# Altium integrated library Silicon Labs Small Form Factor MCUs.IntLib: 100 symbols (part 1 of 5)
Pins are listed as number, name and electrical type; pins without a type are passive.

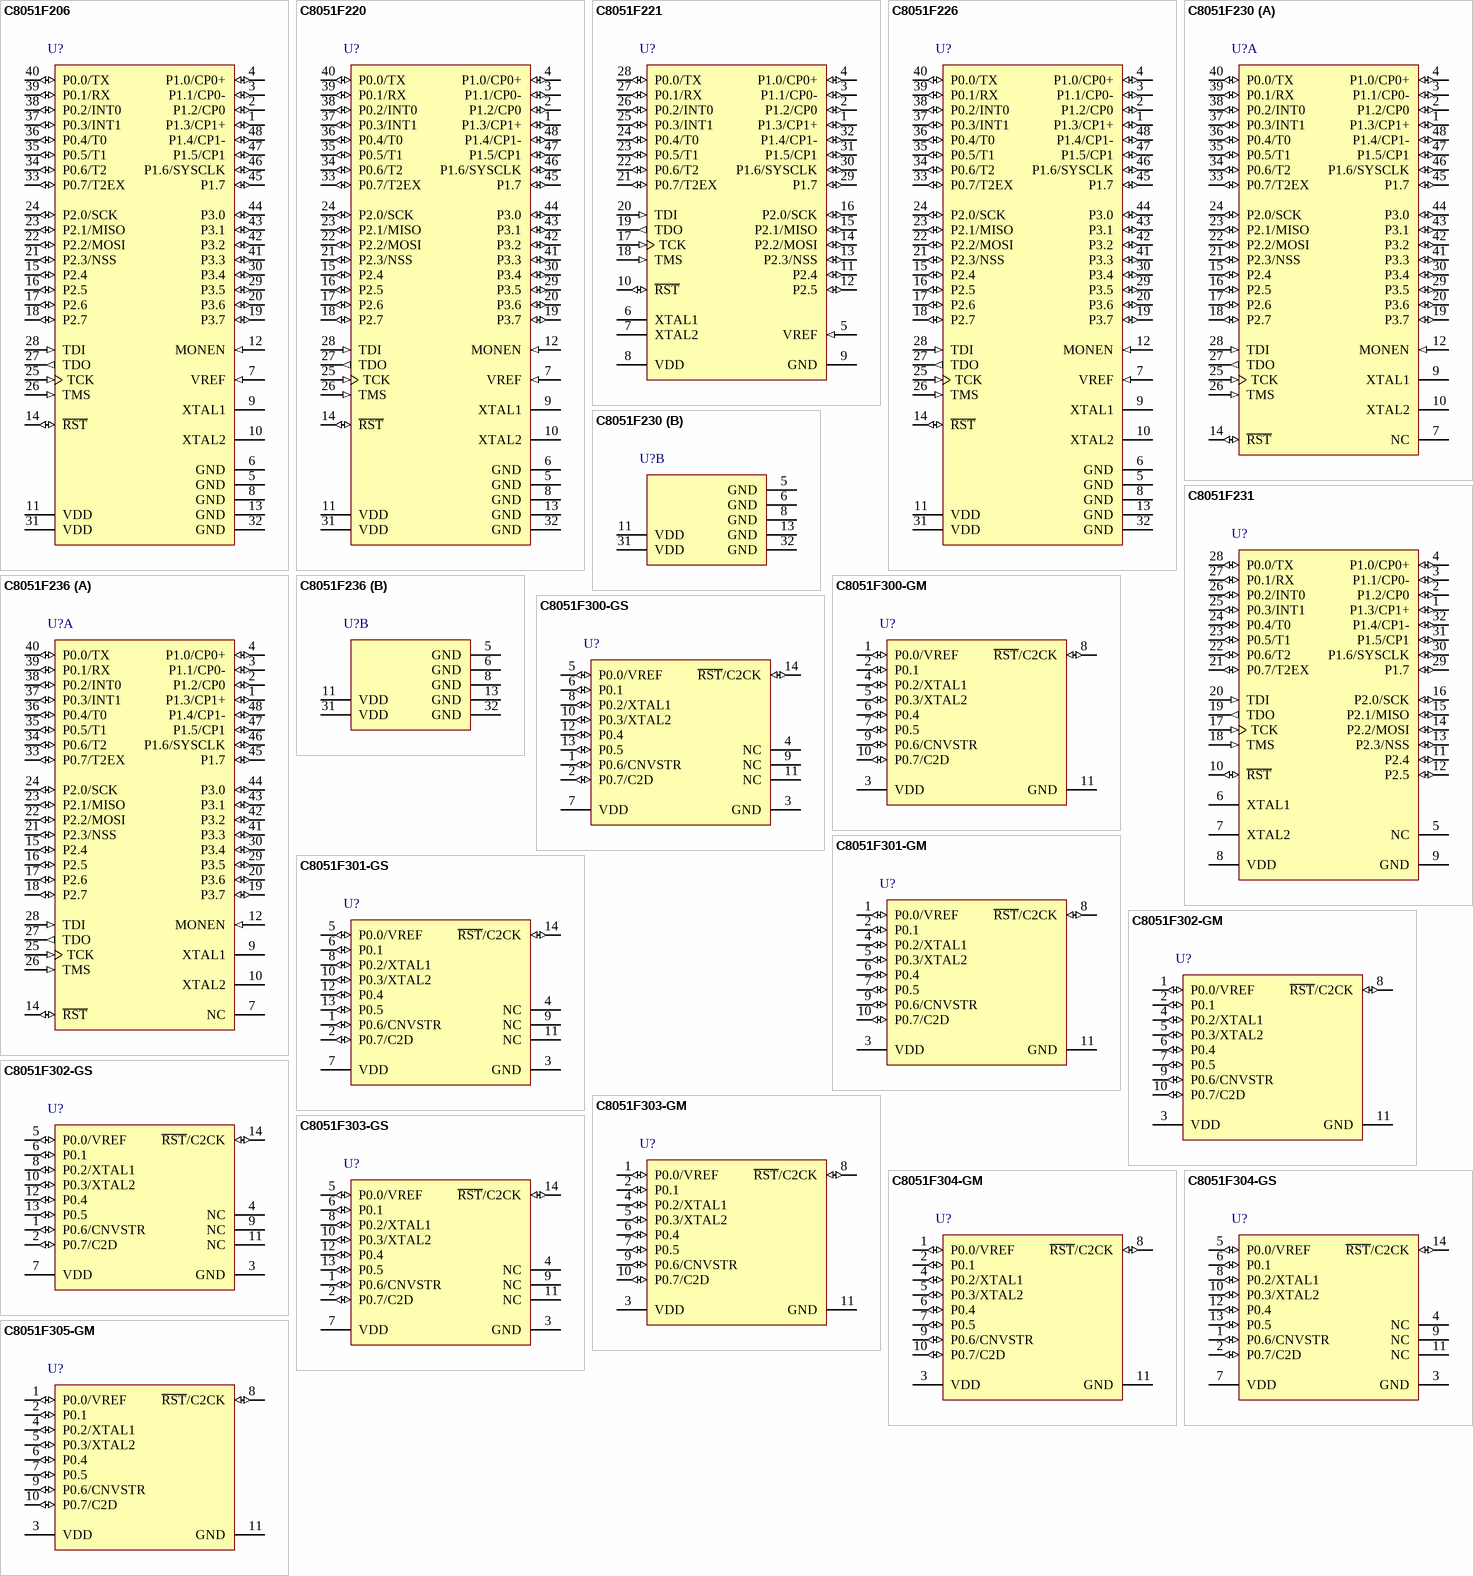
[diagram p0: symbols C8051F206 to C8051F305-GM]

## C8051F206
designator U?
Mixed Signal ISP Flash MCU Family, 25 MHz, 1.25 kB RAM, 8 kB Flash, -40 to 85 degC, 48-pin QFN; Manufacturer: Silicon Labs; PartNumber: C8051F206; AEC-Q100: FALSE; Comparators: 2; Debug Interface: C2; Dig I/O Pins: 32; Flash: 8 kB; Internal Osc. Accuracy: +/-20%; MCU Core: 8051; MHz: 25; RAM: 1.25 kB; Timers (16-bit): 3; Sub-Family: Small Form Factor MCUs; DatasheetVersion: Rev. 1.6; PackageReference: TQFP-48; PackageDescription: 48-pin TQFP, Body 7 x 7 mm, Pitch 0.5 mm; Supplier 1: Digi-Key; Supplier Part Number 1: C8051F206-ND; Supplier 2: Mouser; Supplier Part Number 2: 634-C8051F206; Temp Sensor: FALSE; Mounting Technology: Surface Mount; Code_JEDEC: MS-026; Code_IPC: J-STD-020; ComponentLink1Description: Manufacturer URL; ComponentLink1URL: http://www.silabs.com/; ComponentLink2Description: Datasheet; ComponentLink2URL: http://www.silabs.com/Support Documents/TechnicalDocs/C8051F2xx.pdf; ComponentLink3Description: Package Specification; ComponentLink3URL: http://www.silabs.com/Support%20Documents/TechnicalDocs/CP2200.pdf
footprint SLAB-TQFP-48_N (QFP, 48-Leads, Body 7x7mm, Pitch 0.5mm, IPC Medium Density)
footprint SLAB-TQFP-48_L (QFP, 48-Leads, Body 7x7mm, Pitch 0.5mm, IPC High Density)
footprint SLAB-TQFP-48_M (QFP, 48-Leads, Body 7x7mm, Pitch 0.5mm, IPC Low Density)
pins: 1 P1.3/CP1+ (io), 2 P1.2/CP0 (io), 3 P1.1/CP0- (io), 4 P1.0/CP0+ (io), 5 GND (power) "Ground. (Note: Pins 5,6, and 8 on the 48-pin package are not connected (NC), but it is recommended that they be connected to ground.)", 6 GND (power) "Ground. (Note: Pins 5,6, and 8 on the 48-pin package are not connected (NC), but it is recommended that they be connected to ground.)", 7 VREF (in) "Voltage Reference. When configured as an input, this pin is the voltage reference for the ADC. Otherwise, VDD will be the reference. NOTE: this pin is Not Connected (NC) on ‘F230/1/6.", 8 GND (power) "Ground. (Note: Pins 5,6, and 8 on the 48-pin package are not connected (NC), but it is recommended that they be connected to ground.)", 9 XTAL1 "Crystal Input. This pin is the return for the internal oscillator circuit for a crystal or ceramic resonator. For a precision internal clock, connect a crystal or ceramic resonator from XTAL1 to XTAL2. If overdriven by an (See Datasheet)", 10 XTAL2 "Crystal Output. This pin is the excitation driver for a crystal or ceramic resonator.", 11 VDD (power) "Digital Voltage Supply.", 12 MONEN (in) "Monitor Enable (on 48 pin package ONLY). Enables reset voltage monitor function when pulled high (logic “1”).", 13 GND (power) "Ground. (Note: Pins 5,6, and 8 on the 48-pin package are not connected (NC), but it is recommended that they be connected to ground.)", 14 ~{RST} (io) "Chip Reset. Open-drain output of internal Voltage Supply monitor. Is driven low when VDD is < 2.7V and MONEN=1, or when a ‘1’is written to PORSF. An external source can force a system reset by driving this pin low.", 15 P2.4 (io) "Port2 Bit4. (See the Port I/O Sub-System section for complete description).", 16 P2.5 (io) "Port2 Bit5. (See the Port I/O Sub-System section for complete description).", 17 P2.6 (io) "Port2 Bit6. (See the Port I/O Sub-System section for complete description).", 18 P2.7 (io) "Port2 Bit7. (See the Port I/O Sub-System section for complete description).", 19 P3.7 (io) "Port3 Bit7. (See the Port I/O Sub-System section for complete description).", 20 P3.6 (io) "Port3 Bit6. (See the Port I/O Sub-System section for complete description).", 21 P2.3/NSS (io), 22 P2.2/MOSI (io), 23 P2.1/MISO (io), 24 P2.0/SCK (io), 25 TCK (in) "JTAG Test Clock with internal pull-up.", 26 TMS (in) "JTAG Test-Mode Select with internal pull-up.", 27 TDO (out) "JTAG Test Data Output. Data is shifted out on TDO on the falling edge of TCK. TDO output is a tri-state driver.", 28 TDI (in) "JTAG Test Data Input with internal pull-up. TDI is latched on a rising edge of TCK.", 29 P3.5 (io) "Port3 Bit5. (See the Port I/O Sub-System section for complete description).", 30 P3.4 (io) "Port3 Bit4. (See the Port I/O Sub-System section for complete description).", 31 VDD (power) "Digital Voltage Supply.", 32 GND (power) "Ground. (Note: Pins 5,6, and 8 on the 48-pin package are not connected (NC), but it is recommended that they be connected to ground.)", 33 P0.7/T2EX (io), 34 P0.6/T2 (io), 35 P0.5/T1 (io), 36 P0.4/T0 (io), 37 P0.3/INT1 (io), 38 P0.2/INT0 (io), 39 P0.1/RX (io), 40 P0.0/TX (io), 41 P3.3 (io) "Port3 Bit3. (See the Port I/O Sub-System section for complete description).", 42 P3.2 (io) "Port3 Bit2. (See the Port I/O Sub-System section for complete description).", 43 P3.1 (io) "Port3 Bit1. (See the Port I/O Sub-System section for complete description).", 44 P3.0 (io) "Port3 Bit0. (See the Port I/O Sub-System section for complete description).", 45 P1.7 (io) "Port1 Bit7. (See the Port I/O Sub-System section for complete description).", 46 P1.6/SYSCLK (io), 47 P1.5/CP1 (io), 48 P1.4/CP1- (io)

## C8051F220
designator U?
Mixed Signal ISP Flash MCU Family, 25 MHz, 0.25 kB RAM, 8 kB Flash, -40 to 85 degC, 48-pin QFN; Manufacturer: Silicon Labs; PartNumber: C8051F220; AEC-Q100: FALSE; Comparators: 2; Debug Interface: C2; Dig I/O Pins: 32; Flash: 8 kB; Internal Osc. Accuracy: +/-20%; MCU Core: 8051; MHz: 25; RAM: 0.25 kB; Timers (16-bit): 3; Sub-Family: Small Form Factor MCUs; DatasheetVersion: Rev. 1.6; PackageReference: TQFP-48; PackageDescription: 48-pin TQFP, Body 7 x 7 mm, Pitch 0.5 mm; Supplier 1: Digi-Key; Supplier Part Number 1: C8051F220-ND; Supplier 2: Mouser; Supplier Part Number 2: 634-C8051F220; Temp Sensor: FALSE; Mounting Technology: Surface Mount; Code_JEDEC: MS-026; Code_IPC: J-STD-020; ComponentLink1Description: Manufacturer URL; ComponentLink1URL: http://www.silabs.com/; ComponentLink2Description: Datasheet; ComponentLink2URL: http://www.silabs.com/Support Documents/TechnicalDocs/C8051F2xx.pdf; ComponentLink3Description: Package Specification; ComponentLink3URL: http://www.silabs.com/Support%20Documents/TechnicalDocs/CP2200.pdf
footprint SLAB-TQFP-48_N (QFP, 48-Leads, Body 7x7mm, Pitch 0.5mm, IPC Medium Density)
footprint SLAB-TQFP-48_L (QFP, 48-Leads, Body 7x7mm, Pitch 0.5mm, IPC High Density)
footprint SLAB-TQFP-48_M (QFP, 48-Leads, Body 7x7mm, Pitch 0.5mm, IPC Low Density)
pins: 1 P1.3/CP1+ (io), 2 P1.2/CP0 (io), 3 P1.1/CP0- (io), 4 P1.0/CP0+ (io), 5 GND (power) "Ground. (Note: Pins 5,6, and 8 on the 48-pin package are not connected (NC), but it is recommended that they be connected to ground.)", 6 GND (power) "Ground. (Note: Pins 5,6, and 8 on the 48-pin package are not connected (NC), but it is recommended that they be connected to ground.)", 7 VREF (in) "Voltage Reference. When configured as an input, this pin is the voltage reference for the ADC. Otherwise, VDD will be the reference. NOTE: this pin is Not Connected (NC) on ‘F230/1/6.", 8 GND (power) "Ground. (Note: Pins 5,6, and 8 on the 48-pin package are not connected (NC), but it is recommended that they be connected to ground.)", 9 XTAL1 "Crystal Input. This pin is the return for the internal oscillator circuit for a crystal or ceramic resonator. For a precision internal clock, connect a crystal or ceramic resonator from XTAL1 to XTAL2. If overdriven by an (See Datasheet)", 10 XTAL2 "Crystal Output. This pin is the excitation driver for a crystal or ceramic resonator.", 11 VDD (power) "Digital Voltage Supply.", 12 MONEN (in) "Monitor Enable (on 48 pin package ONLY). Enables reset voltage monitor function when pulled high (logic “1”).", 13 GND (power) "Ground. (Note: Pins 5,6, and 8 on the 48-pin package are not connected (NC), but it is recommended that they be connected to ground.)", 14 ~{RST} (io) "Chip Reset. Open-drain output of internal Voltage Supply monitor. Is driven low when VDD is < 2.7V and MONEN=1, or when a ‘1’is written to PORSF. An external source can force a system reset by driving this pin low.", 15 P2.4 (io) "Port2 Bit4. (See the Port I/O Sub-System section for complete description).", 16 P2.5 (io) "Port2 Bit5. (See the Port I/O Sub-System section for complete description).", 17 P2.6 (io) "Port2 Bit6. (See the Port I/O Sub-System section for complete description).", 18 P2.7 (io) "Port2 Bit7. (See the Port I/O Sub-System section for complete description).", 19 P3.7 (io) "Port3 Bit7. (See the Port I/O Sub-System section for complete description).", 20 P3.6 (io) "Port3 Bit6. (See the Port I/O Sub-System section for complete description).", 21 P2.3/NSS (io), 22 P2.2/MOSI (io), 23 P2.1/MISO (io), 24 P2.0/SCK (io), 25 TCK (in) "JTAG Test Clock with internal pull-up.", 26 TMS (in) "JTAG Test-Mode Select with internal pull-up.", 27 TDO (out) "JTAG Test Data Output. Data is shifted out on TDO on the falling edge of TCK. TDO output is a tri-state driver.", 28 TDI (in) "JTAG Test Data Input with internal pull-up. TDI is latched on a rising edge of TCK.", 29 P3.5 (io) "Port3 Bit5. (See the Port I/O Sub-System section for complete description).", 30 P3.4 (io) "Port3 Bit4. (See the Port I/O Sub-System section for complete description).", 31 VDD (power) "Digital Voltage Supply.", 32 GND (power) "Ground. (Note: Pins 5,6, and 8 on the 48-pin package are not connected (NC), but it is recommended that they be connected to ground.)", 33 P0.7/T2EX (io), 34 P0.6/T2 (io), 35 P0.5/T1 (io), 36 P0.4/T0 (io), 37 P0.3/INT1 (io), 38 P0.2/INT0 (io), 39 P0.1/RX (io), 40 P0.0/TX (io), 41 P3.3 (io) "Port3 Bit3. (See the Port I/O Sub-System section for complete description).", 42 P3.2 (io) "Port3 Bit2. (See the Port I/O Sub-System section for complete description).", 43 P3.1 (io) "Port3 Bit1. (See the Port I/O Sub-System section for complete description).", 44 P3.0 (io) "Port3 Bit0. (See the Port I/O Sub-System section for complete description).", 45 P1.7 (io) "Port1 Bit7. (See the Port I/O Sub-System section for complete description).", 46 P1.6/SYSCLK (io), 47 P1.5/CP1 (io), 48 P1.4/CP1- (io)

## C8051F221
designator U?
Mixed Signal ISP Flash MCU Family, 25 MHz, 0.25 kB RAM, 8 kB Flash, -40 to 85 degC, 32-pin QFP; Manufacturer: Silicon Labs; PartNumber: C8051F221; AEC-Q100: FALSE; Comparators: 2; Debug Interface: C2; Dig I/O Pins: 22; Flash: 8 kB; Internal Osc. Accuracy: +/-20%; MCU Core: 8051; MHz: 25; RAM: 0.25 kB; Timers (16-bit): 3; Sub-Family: Small Form Factor MCUs; DatasheetVersion: Rev. 1.6; PackageReference: LQFP-32; PackageDescription: 32-Pin Low-Profile Quad Flat Pack, Body 7 x 7 mm, Pitch 0.8 mm; Supplier 1: Digi-Key; Supplier Part Number 1: C8051F221-ND; Supplier 2: Mouser; Supplier Part Number 2: 634-C8051F221; Temp Sensor: FALSE; Mounting Technology: Surface Mount; Code_JEDEC: MS-026; Code_IPC: J-STD-020; ComponentLink1Description: Manufacturer URL; ComponentLink1URL: http://www.silabs.com/; ComponentLink2Description: Datasheet; ComponentLink2URL: http://www.silabs.com/Support Documents/TechnicalDocs/C8051F2xx.pdf; ComponentLink3Description: Package Specification; ComponentLink3URL: http://www.silabs.com/Support%20Documents/TechnicalDocs/C8051F38x.pdf
footprint SLAB-LQFP-32_N (QFP, 32-Leads, Body 7x7mm, Pitch 0.8mm, IPC Medium Density)
footprint SLAB-LQFP-32_L (QFP, 32-Leads, Body 7x7mm, Pitch 0.8mm, IPC High Density)
footprint SLAB-LQFP-32_M (QFP, 32-Leads, Body 7x7mm, Pitch 0.8mm, IPC Low Density)
pins: 1 P1.3/CP1+ (io), 2 P1.2/CP0 (io), 3 P1.1/CP0- (io), 4 P1.0/CP0+ (io), 5 VREF (in) "Voltage Reference. When configured as an input, this pin is the  voltage reference for the ADC. Otherwise, VDD will be the reference. NOTE: this pin is Not Connected (NC) on ‘F230/1/6.", 6 XTAL1 "Crystal Input. This pin is the return for the internal oscillator circuit for a crystal or ceramic resonator. For a precision internal  clock, connect a crystal or ceramic resonator from XTAL1 to  XTAL2. If overdriven by an (See Datasheet)", 7 XTAL2 "Crystal Output. This pin is the excitation driver for a crystal or  ceramic resonator.", 8 VDD (power) "Digital Voltage Supply.", 9 GND (power) "Ground.", 10 ~{RST} (io) "Chip Reset. Open-drain output of internal Voltage Supply monitor. Is driven low when VDD is < 2.7V and MONEN=1, or when a  ‘1’is written to PORSF. An external source can force a system  reset by driving this pin low.", 11 P2.4 (io) "Port2 Bit4. (See the Port I/O Sub-System section for complete  description).", 12 P2.5 (io) "Port2 Bit5. (See the Port I/O Sub-System section for complete  description).", 13 P2.3/NSS (io), 14 P2.2/MOSI (io), 15 P2.1/MISO (io), 16 P2.0/SCK (io), 17 TCK (in) "JTAG Test Clock with internal pull-up.", 18 TMS (in) "JTAG Test-Mode Select with internal pull-up.", 19 TDO (out) "JTAG Test Data Output. Data is shifted out on TDO on the falling  edge of TCK. TDO output is a tri-state driver.", 20 TDI (in) "JTAG Test Data Input with internal pull-up. TDI is latched on a  rising edge of TCK.", 21 P0.7/T2EX (io), 22 P0.6/T2 (io), 23 P0.5/T1 (io), 24 P0.4/T0 (io), 25 P0.3/INT1 (io), 26 P0.2/INT0 (io), 27 P0.1/RX (io), 28 P0.0/TX (io), 29 P1.7 (io) "Port1 Bit7. (See the Port I/O Sub-System section for complete  description).", 30 P1.6/SYSCLK (io), 31 P1.5/CP1 (io), 32 P1.4/CP1- (io)

## C8051F226
designator U?
Mixed Signal ISP Flash MCU Family, 25 MHz, 1.25 kB RAM, 8 kB Flash, -40 to 85 degC, 48-pin QFN; Manufacturer: Silicon Labs; PartNumber: C8051F226; AEC-Q100: FALSE; Comparators: 2; Debug Interface: C2; Dig I/O Pins: 32; Flash: 8 kB; Internal Osc. Accuracy: +/-20%; MCU Core: 8051; MHz: 25; RAM: 1.25 kB; Timers (16-bit): 3; Sub-Family: Small Form Factor MCUs; DatasheetVersion: Rev. 1.6; PackageReference: TQFP-48; PackageDescription: 48-pin TQFP, Body 7 x 7 mm, Pitch 0.5 mm; Supplier 1: Digi-Key; Supplier Part Number 1: C8051F226-ND; Supplier 2: Mouser; Supplier Part Number 2: 634-C8051F226; Temp Sensor: FALSE; Mounting Technology: Surface Mount; Code_JEDEC: MS-026; Code_IPC: J-STD-020; ComponentLink1Description: Manufacturer URL; ComponentLink1URL: http://www.silabs.com/; ComponentLink2Description: Datasheet; ComponentLink2URL: http://www.silabs.com/Support Documents/TechnicalDocs/C8051F2xx.pdf; ComponentLink3Description: Package Specification; ComponentLink3URL: http://www.silabs.com/Support%20Documents/TechnicalDocs/CP2200.pdf
footprint SLAB-TQFP-48_N (QFP, 48-Leads, Body 7x7mm, Pitch 0.5mm, IPC Medium Density)
footprint SLAB-TQFP-48_L (QFP, 48-Leads, Body 7x7mm, Pitch 0.5mm, IPC High Density)
footprint SLAB-TQFP-48_M (QFP, 48-Leads, Body 7x7mm, Pitch 0.5mm, IPC Low Density)
pins: 1 P1.3/CP1+ (io), 2 P1.2/CP0 (io), 3 P1.1/CP0- (io), 4 P1.0/CP0+ (io), 5 GND (power) "Ground. (Note: Pins 5,6, and 8 on the 48-pin package are not connected (NC), but it is recommended that they be connected to ground.)", 6 GND (power) "Ground. (Note: Pins 5,6, and 8 on the 48-pin package are not connected (NC), but it is recommended that they be connected to ground.)", 7 VREF (in) "Voltage Reference. When configured as an input, this pin is the voltage reference for the ADC. Otherwise, VDD will be the reference. NOTE: this pin is Not Connected (NC) on ‘F230/1/6.", 8 GND (power) "Ground. (Note: Pins 5,6, and 8 on the 48-pin package are not connected (NC), but it is recommended that they be connected to ground.)", 9 XTAL1 "Crystal Input. This pin is the return for the internal oscillator circuit for a crystal or ceramic resonator. For a precision internal clock, connect a crystal or ceramic resonator from XTAL1 to XTAL2. If overdriven by an (See Datasheet)", 10 XTAL2 "Crystal Output. This pin is the excitation driver for a crystal or ceramic resonator.", 11 VDD (power) "Digital Voltage Supply.", 12 MONEN (in) "Monitor Enable (on 48 pin package ONLY). Enables reset voltage monitor function when pulled high (logic “1”).", 13 GND (power) "Ground. (Note: Pins 5,6, and 8 on the 48-pin package are not connected (NC), but it is recommended that they be connected to ground.)", 14 ~{RST} (io) "Chip Reset. Open-drain output of internal Voltage Supply monitor. Is driven low when VDD is < 2.7V and MONEN=1, or when a ‘1’is written to PORSF. An external source can force a system reset by driving this pin low.", 15 P2.4 (io) "Port2 Bit4. (See the Port I/O Sub-System section for complete description).", 16 P2.5 (io) "Port2 Bit5. (See the Port I/O Sub-System section for complete description).", 17 P2.6 (io) "Port2 Bit6. (See the Port I/O Sub-System section for complete description).", 18 P2.7 (io) "Port2 Bit7. (See the Port I/O Sub-System section for complete description).", 19 P3.7 (io) "Port3 Bit7. (See the Port I/O Sub-System section for complete description).", 20 P3.6 (io) "Port3 Bit6. (See the Port I/O Sub-System section for complete description).", 21 P2.3/NSS (io), 22 P2.2/MOSI (io), 23 P2.1/MISO (io), 24 P2.0/SCK (io), 25 TCK (in) "JTAG Test Clock with internal pull-up.", 26 TMS (in) "JTAG Test-Mode Select with internal pull-up.", 27 TDO (out) "JTAG Test Data Output. Data is shifted out on TDO on the falling edge of TCK. TDO output is a tri-state driver.", 28 TDI (in) "JTAG Test Data Input with internal pull-up. TDI is latched on a rising edge of TCK.", 29 P3.5 (io) "Port3 Bit5. (See the Port I/O Sub-System section for complete description).", 30 P3.4 (io) "Port3 Bit4. (See the Port I/O Sub-System section for complete description).", 31 VDD (power) "Digital Voltage Supply.", 32 GND (power) "Ground. (Note: Pins 5,6, and 8 on the 48-pin package are not connected (NC), but it is recommended that they be connected to ground.)", 33 P0.7/T2EX (io), 34 P0.6/T2 (io), 35 P0.5/T1 (io), 36 P0.4/T0 (io), 37 P0.3/INT1 (io), 38 P0.2/INT0 (io), 39 P0.1/RX (io), 40 P0.0/TX (io), 41 P3.3 (io) "Port3 Bit3. (See the Port I/O Sub-System section for complete description).", 42 P3.2 (io) "Port3 Bit2. (See the Port I/O Sub-System section for complete description).", 43 P3.1 (io) "Port3 Bit1. (See the Port I/O Sub-System section for complete description).", 44 P3.0 (io) "Port3 Bit0. (See the Port I/O Sub-System section for complete description).", 45 P1.7 (io) "Port1 Bit7. (See the Port I/O Sub-System section for complete description).", 46 P1.6/SYSCLK (io), 47 P1.5/CP1 (io), 48 P1.4/CP1- (io)

## C8051F230
designator U?
Mixed Signal ISP Flash MCU Family, 25 MHz, 0.25 kB RAM, 8 kB Flash, -40 to 85 degC, 48-pin QFN; Manufacturer: Silicon Labs; PartNumber: C8051F230; AEC-Q100: FALSE; Comparators: 2; Debug Interface: C2; Dig I/O Pins: 32; Flash: 8 kB; Internal Osc. Accuracy: +/-20%; MCU Core: 8051; MHz: 25; RAM: 0.25 kB; Timers (16-bit): 3; Sub-Family: Small Form Factor MCUs; DatasheetVersion: Rev. 1.6; PackageReference: TQFP-48; PackageDescription: 48-pin TQFP, Body 7 x 7 mm, Pitch 0.5 mm; Supplier 1: Digi-Key; Supplier Part Number 1: C8051F230-ND; Supplier 2: Mouser; Supplier Part Number 2: 634-C8051F230; Temp Sensor: FALSE; Mounting Technology: Surface Mount; Code_JEDEC: MS-026; Code_IPC: J-STD-020; ComponentLink1Description: Manufacturer URL; ComponentLink1URL: http://www.silabs.com/; ComponentLink2Description: Datasheet; ComponentLink2URL: http://www.silabs.com/Support Documents/TechnicalDocs/C8051F2xx.pdf; ComponentLink3Description: Package Specification; ComponentLink3URL: http://www.silabs.com/Support%20Documents/TechnicalDocs/CP2200.pdf
footprint SLAB-TQFP-48_N (QFP, 48-Leads, Body 7x7mm, Pitch 0.5mm, IPC Medium Density)
footprint SLAB-TQFP-48_L (QFP, 48-Leads, Body 7x7mm, Pitch 0.5mm, IPC High Density)
footprint SLAB-TQFP-48_M (QFP, 48-Leads, Body 7x7mm, Pitch 0.5mm, IPC Low Density)
part A pins: 1 P1.3/CP1+ (io), 2 P1.2/CP0 (io), 3 P1.1/CP0- (io), 4 P1.0/CP0+ (io) "Crystal Input. This pin is the return for the internal oscillator circuit for a crystal or ceramic resonator. For a precision internal clock, connect a crystal or ceramic resonator from XTAL1 to XTAL2. If overdriven by an (See Datasheet)", 7 NC "this pin is Not Connected (NC) on ‘F230/1/6.", 9 XTAL1 "Crystal Input. This pin is the return for the internal oscillator circuit for a crystal or ceramic resonator. For a precision internal clock, connect a crystal or ceramic resonator from XTAL1 to XTAL2. If overdriven by an (See Datasheet)", 10 XTAL2 "Crystal Output. This pin is the excitation driver for a crystal or ceramic resonator.", 12 MONEN (in) "Monitor Enable (on 48 pin package ONLY). Enables reset voltage monitor function when pulled high (logic “1”).", 14 ~{RST} (io) "Chip Reset. Open-drain output of internal Voltage Supply monitor. Is driven low when VDD is < 2.7V and MONEN=1, or when a ‘1’is written to PORSF. An external source can force a system reset by driving this pin low.", 15 P2.4 (io) "Port2 Bit4. (See the Port I/O Sub-System section for complete description).", 16 P2.5 (io) "Port2 Bit5. (See the Port I/O Sub-System section for complete description).", 17 P2.6 (io) "Port2 Bit6. (See the Port I/O Sub-System section for complete description).", 18 P2.7 (io) "Port2 Bit7. (See the Port I/O Sub-System section for complete description).", 19 P3.7 (io) "Port3 Bit7. (See the Port I/O Sub-System section for complete description).", 20 P3.6 (io) "Port3 Bit6. (See the Port I/O Sub-System section for complete description).", 21 P2.3/NSS (io), 22 P2.2/MOSI (io), 23 P2.1/MISO (io), 24 P2.0/SCK (io) "JTAG Test Clock with internal pull-up.", 25 TCK (in) "JTAG Test Clock with internal pull-up.", 26 TMS (in) "JTAG Test-Mode Select with internal pull-up.", 27 TDO (out) "JTAG Test Data Output. Data is shifted out on TDO on the falling edge of TCK. TDO output is a tri-state driver.", 28 TDI (in) "JTAG Test Data Input with internal pull-up. TDI is latched on a rising edge of TCK.", 29 P3.5 (io) "Port3 Bit5. (See the Port I/O Sub-System section for complete description).", 30 P3.4 (io) "Port3 Bit4. (See the Port I/O Sub-System section for complete description).", 33 P0.7/T2EX (io) "Digital Voltage Supply.", 34 P0.6/T2 (io), 35 P0.5/T1 (io), 36 P0.4/T0 (io), 37 P0.3/INT1 (io), 38 P0.2/INT0 (io), 39 P0.1/RX (io), 40 P0.0/TX (io) "Port3 Bit2. (See the Port I/O Sub-System section for complete description).", 41 P3.3 (io) "Port3 Bit3. (See the Port I/O Sub-System section for complete description).", 42 P3.2 (io) "Port3 Bit2. (See the Port I/O Sub-System section for complete description).", 43 P3.1 (io) "Port3 Bit1. (See the Port I/O Sub-System section for complete description).", 44 P3.0 (io) "Port3 Bit0. (See the Port I/O Sub-System section for complete description).", 45 P1.7 (io) "Port1 Bit7. (See the Port I/O Sub-System section for complete description).", 46 P1.6/SYSCLK (io), 47 P1.5/CP1 (io), 48 P1.4/CP1- (io) "Port1 Bit7. (See the Port I/O Sub-System section for complete description)."
part B pins: 5 GND (power) "Ground. (Note: Pins 5,6, and 8 on the 48-pin package are not connected (NC), but it is recommended that they be connected to ground.)", 6 GND (power) "Ground. (Note: Pins 5,6, and 8 on the 48-pin package are not connected (NC), but it is recommended that they be connected to ground.)", 8 GND (power) "Ground. (Note: Pins 5,6, and 8 on the 48-pin package are not connected (NC), but it is recommended that they be connected to ground.)", 11 VDD (power) "Digital Voltage Supply.", 13 GND (power) "Ground. (Note: Pins 5,6, and 8 on the 48-pin package are not connected (NC), but it is recommended that they be connected to ground.)", 31 VDD (power) "Digital Voltage Supply.", 32 GND (power) "Ground. (Note: Pins 5,6, and 8 on the 48-pin package are not connected (NC), but it is recommended that they be connected to ground.)"

## C8051F231
designator U?
Mixed Signal ISP Flash MCU Family, 25 MHz, 0.25 kB RAM, 8 kB Flash, -40 to 85 degC, 32-pin QFP; Manufacturer: Silicon Labs; PartNumber: C8051F231; AEC-Q100: FALSE; Comparators: 2; Debug Interface: C2; Dig I/O Pins: 22; Flash: 8 kB; Internal Osc. Accuracy: +/-20%; MCU Core: 8051; MHz: 25; RAM: 0.25 kB; Timers (16-bit): 3; Sub-Family: Small Form Factor MCUs; DatasheetVersion: Rev. 1.6; PackageReference: LQFP-32; PackageDescription: 32-Pin Low-Profile Quad Flat Pack, Body 7 x 7 mm, Pitch 0.8 mm; Supplier 1: Digi-Key; Supplier Part Number 1: C8051F231-ND; Supplier 2: Mouser; Supplier Part Number 2: 634-C8051F231; Temp Sensor: FALSE; Mounting Technology: Surface Mount; Code_JEDEC: MS-026; Code_IPC: J-STD-020; ComponentLink1Description: Manufacturer URL; ComponentLink1URL: http://www.silabs.com/; ComponentLink2Description: Datasheet; ComponentLink2URL: http://www.silabs.com/Support Documents/TechnicalDocs/C8051F2xx.pdf; ComponentLink3Description: Package Specification; ComponentLink3URL: http://www.silabs.com/Support%20Documents/TechnicalDocs/C8051F38x.pdf
footprint SLAB-LQFP-32_N (QFP, 32-Leads, Body 7x7mm, Pitch 0.8mm, IPC Medium Density)
footprint SLAB-LQFP-32_L (QFP, 32-Leads, Body 7x7mm, Pitch 0.8mm, IPC High Density)
footprint SLAB-LQFP-32_M (QFP, 32-Leads, Body 7x7mm, Pitch 0.8mm, IPC Low Density)
pins: 1 P1.3/CP1+ (io), 2 P1.2/CP0 (io), 3 P1.1/CP0- (io), 4 P1.0/CP0+ (io), 5 NC "Not Connected", 6 XTAL1 "Crystal Input. This pin is the return for the internal oscillator circuit for a crystal or ceramic resonator. For a precision internal  clock, connect a crystal or ceramic resonator from XTAL1 to  XTAL2. If overdriven by an (See Datasheet)", 7 XTAL2 "Crystal Output. This pin is the excitation driver for a crystal or  ceramic resonator.", 8 VDD (power) "Digital Voltage Supply.", 9 GND (power) "Ground.", 10 ~{RST} (io) "Chip Reset. Open-drain output of internal Voltage Supply monitor. Is driven low when VDD is < 2.7V and MONEN=1, or when a  ‘1’is written to PORSF. An external source can force a system  reset by driving this pin low.", 11 P2.4 (io) "Port2 Bit4. (See the Port I/O Sub-System section for complete  description).", 12 P2.5 (io) "Port2 Bit5. (See the Port I/O Sub-System section for complete  description).", 13 P2.3/NSS (io), 14 P2.2/MOSI (io), 15 P2.1/MISO (io), 16 P2.0/SCK (io), 17 TCK (in) "JTAG Test Clock with internal pull-up.", 18 TMS (in) "JTAG Test-Mode Select with internal pull-up.", 19 TDO (out) "JTAG Test Data Output. Data is shifted out on TDO on the falling  edge of TCK. TDO output is a tri-state driver.", 20 TDI (in) "JTAG Test Data Input with internal pull-up. TDI is latched on a  rising edge of TCK.", 21 P0.7/T2EX (io), 22 P0.6/T2 (io), 23 P0.5/T1 (io), 24 P0.4/T0 (io), 25 P0.3/INT1 (io), 26 P0.2/INT0 (io), 27 P0.1/RX (io), 28 P0.0/TX (io), 29 P1.7 (io) "Port1 Bit7. (See the Port I/O Sub-System section for complete  description).", 30 P1.6/SYSCLK (io), 31 P1.5/CP1 (io), 32 P1.4/CP1- (io)

## C8051F236
designator U?
Mixed Signal ISP Flash MCU Family, 25 MHz, 1.25 kB RAM, 8 kB Flash, -40 to 85 degC, 48-pin QFN; Manufacturer: Silicon Labs; PartNumber: C8051F236; AEC-Q100: FALSE; Comparators: 2; Debug Interface: C2; Dig I/O Pins: 32; Flash: 8 kB; Internal Osc. Accuracy: +/-20%; MCU Core: 8051; MHz: 25; RAM: 1.25 kB; Timers (16-bit): 3; Sub-Family: Small Form Factor MCUs; DatasheetVersion: Rev. 1.6; PackageReference: TQFP-48; PackageDescription: 48-pin TQFP, Body 7 x 7 mm, Pitch 0.5 mm; Supplier 1: Digi-Key; Supplier Part Number 1: C8051F236-ND; Supplier 2: Mouser; Supplier Part Number 2: 634-C8051F236; Temp Sensor: FALSE; Mounting Technology: Surface Mount; Code_JEDEC: MS-026; Code_IPC: J-STD-020; ComponentLink1Description: Manufacturer URL; ComponentLink1URL: http://www.silabs.com/; ComponentLink2Description: Datasheet; ComponentLink2URL: http://www.silabs.com/Support Documents/TechnicalDocs/C8051F2xx.pdf; ComponentLink3Description: Package Specification; ComponentLink3URL: http://www.silabs.com/Support%20Documents/TechnicalDocs/CP2200.pdf
footprint SLAB-TQFP-48_N (QFP, 48-Leads, Body 7x7mm, Pitch 0.5mm, IPC Medium Density)
footprint SLAB-TQFP-48_L (QFP, 48-Leads, Body 7x7mm, Pitch 0.5mm, IPC High Density)
footprint SLAB-TQFP-48_M (QFP, 48-Leads, Body 7x7mm, Pitch 0.5mm, IPC Low Density)
part A pins: 1 P1.3/CP1+ (io), 2 P1.2/CP0 (io), 3 P1.1/CP0- (io), 4 P1.0/CP0+ (io) "Crystal Input. This pin is the return for the internal oscillator circuit for a crystal or ceramic resonator. For a precision internal clock, connect a crystal or ceramic resonator from XTAL1 to XTAL2. If overdriven by an (See Datasheet)", 7 NC "this pin is Not Connected (NC) on ‘F230/1/6.", 9 XTAL1 "Crystal Input. This pin is the return for the internal oscillator circuit for a crystal or ceramic resonator. For a precision internal clock, connect a crystal or ceramic resonator from XTAL1 to XTAL2. If overdriven by an (See Datasheet)", 10 XTAL2 "Crystal Output. This pin is the excitation driver for a crystal or ceramic resonator.", 12 MONEN (in) "Monitor Enable (on 48 pin package ONLY). Enables reset voltage monitor function when pulled high (logic “1”).", 14 ~{RST} (io) "Chip Reset. Open-drain output of internal Voltage Supply monitor. Is driven low when VDD is < 2.7V and MONEN=1, or when a ‘1’is written to PORSF. An external source can force a system reset by driving this pin low.", 15 P2.4 (io) "Port2 Bit4. (See the Port I/O Sub-System section for complete description).", 16 P2.5 (io) "Port2 Bit5. (See the Port I/O Sub-System section for complete description).", 17 P2.6 (io) "Port2 Bit6. (See the Port I/O Sub-System section for complete description).", 18 P2.7 (io) "Port2 Bit7. (See the Port I/O Sub-System section for complete description).", 19 P3.7 (io) "Port3 Bit7. (See the Port I/O Sub-System section for complete description).", 20 P3.6 (io) "Port3 Bit6. (See the Port I/O Sub-System section for complete description).", 21 P2.3/NSS (io), 22 P2.2/MOSI (io), 23 P2.1/MISO (io), 24 P2.0/SCK (io) "JTAG Test Clock with internal pull-up.", 25 TCK (in) "JTAG Test Clock with internal pull-up.", 26 TMS (in) "JTAG Test-Mode Select with internal pull-up.", 27 TDO (out) "JTAG Test Data Output. Data is shifted out on TDO on the falling edge of TCK. TDO output is a tri-state driver.", 28 TDI (in) "JTAG Test Data Input with internal pull-up. TDI is latched on a rising edge of TCK.", 29 P3.5 (io) "Port3 Bit5. (See the Port I/O Sub-System section for complete description).", 30 P3.4 (io) "Port3 Bit4. (See the Port I/O Sub-System section for complete description).", 33 P0.7/T2EX (io) "Digital Voltage Supply.", 34 P0.6/T2 (io), 35 P0.5/T1 (io), 36 P0.4/T0 (io), 37 P0.3/INT1 (io), 38 P0.2/INT0 (io), 39 P0.1/RX (io), 40 P0.0/TX (io) "Port3 Bit2. (See the Port I/O Sub-System section for complete description).", 41 P3.3 (io) "Port3 Bit3. (See the Port I/O Sub-System section for complete description).", 42 P3.2 (io) "Port3 Bit2. (See the Port I/O Sub-System section for complete description).", 43 P3.1 (io) "Port3 Bit1. (See the Port I/O Sub-System section for complete description).", 44 P3.0 (io) "Port3 Bit0. (See the Port I/O Sub-System section for complete description).", 45 P1.7 (io) "Port1 Bit7. (See the Port I/O Sub-System section for complete description).", 46 P1.6/SYSCLK (io), 47 P1.5/CP1 (io), 48 P1.4/CP1- (io) "Port1 Bit7. (See the Port I/O Sub-System section for complete description)."
part B pins: 5 GND (power) "Ground. (Note: Pins 5,6, and 8 on the 48-pin package are not connected (NC), but it is recommended that they be connected to ground.)", 6 GND (power) "Ground. (Note: Pins 5,6, and 8 on the 48-pin package are not connected (NC), but it is recommended that they be connected to ground.)", 8 GND (power) "Ground. (Note: Pins 5,6, and 8 on the 48-pin package are not connected (NC), but it is recommended that they be connected to ground.)", 11 VDD (power) "Digital Voltage Supply.", 13 GND (power) "Ground. (Note: Pins 5,6, and 8 on the 48-pin package are not connected (NC), but it is recommended that they be connected to ground.)", 31 VDD (power) "Digital Voltage Supply.", 32 GND (power) "Ground. (Note: Pins 5,6, and 8 on the 48-pin package are not connected (NC), but it is recommended that they be connected to ground.)"

## C8051F300-GM
designator U?
Mixed Signal ISP Flash MCU Family, 25 MHz, 0.25 kB RAM, 8 kB Flash, -40 to 85 degC, 11-pin QFN; Manufacturer: Silicon Labs; PartNumber: C8051F300-GM; ADC 1: 8-bit, 8-ch., 500 ksps; AEC-Q100: FALSE; Comparators: 1; Debug Interface: C2; Dig I/O Pins: 8; Flash: 8 kB; Internal Osc. Accuracy: +/-2%; MCU Core: 8051; MHz: 25; PCA Channels: 3; RAM: 0.25 kB; Temp Sensor: TRUE; Sub-Family: Small Form Factor MCUs; DatasheetVersion: Rev. 2.9; PackageReference: QFN-11; PackageDescription: 11-Pin Quad-Flat No-Leads Package, Body 3 x 3 mm, Pitch 0.5 mm; Supplier 1: Digi-Key; Supplier Part Number 1: 336-1245-ND; Supplier 2: Farnell; Supplier Part Number 2: 9685804; Supplier 3: Mouser; Supplier Part Number 3: 634-C8051F300-GM; Timers (16-bit): 3; Mounting Technology: Surface Mount; Code_JEDEC: MO-243; Code_IPC: J-STD-020C; ComponentLink1Description: Manufacturer URL; ComponentLink1URL: http://www.silabs.com/; ComponentLink2Description: Datasheet; ComponentLink2URL: http://www.silabs.com/Support Documents/TechnicalDocs/C8051F30x.pdf; ComponentLink3Description: Package Specification; ComponentLink3URL: http://www.silabs.com/Support%20Documents/TechnicalDocs/Si3462.pdf
footprint SLAB-QFN-11-1350x2250TP_N (QFN, 11-Leads, Body 3x3mm, Pitch 0.5mm, Thermal Pad 3x1.35mm, IPC Medium Density)
footprint SLAB-QFN-11-1350x2250TP_L (QFN, 11-Leads, Body 3x3mm, Pitch 0.5mm, Thermal Pad 3x1.35mm, IPC High Density)
footprint SLAB-QFN-11-1350x2250TP_M (QFN, 11-Leads, Body 3x3mm, Pitch 0.5mm, Thermal Pad 3x1.35mm, IPC Low Density)
pins: 1 P0.0/VREF (io), 2 P0.1 (io) "Port 0.1.", 3 VDD (power) "Power Supply Voltage", 4 P0.2/XTAL1 (io), 5 P0.3/XTAL2 (io), 6 P0.4 (io) "Port 0.4.", 7 P0.5 (io) "Port 0.5.", 8 ~{RST}/C2CK (io), 9 P0.6/CNVSTR (io), 10 P0.7/C2D (io), 11 GND (power) "Ground."

## C8051F300-GS
designator U?
Mixed Signal ISP Flash MCU Family, 25 MHz, 0.25 kB RAM, 8 kB Flash, -40 to 85 degC, 14-pin SOIC; Manufacturer: Silicon Labs; PartNumber: C8051F300-GS; ADC 1: 8-bit, 8-ch., 500 ksps; AEC-Q100: FALSE; Comparators: 1; Debug Interface: C2; Dig I/O Pins: 8; Flash: 8 kB; Internal Osc. Accuracy: +/-2%; MCU Core: 8051; MHz: 25; PCA Channels: 3; RAM: 0.25 kB; Temp Sensor: TRUE; Sub-Family: Small Form Factor MCUs; DatasheetVersion: Rev. 2.9; PackageReference: SOIC-14; PackageDescription: 14-Pin Small-Outline Integrated Circuit, Body 8.65 x 3.9 mm, Pitch 1.27 mm; Supplier 1: Digi-Key; Supplier Part Number 1: 336-1535-5-ND; Supplier 2: Mouser; Supplier Part Number 2: 634-C8051F300-GS; Timers (16-bit): 3; Mounting Technology: Surface Mount; Code_JEDEC: MS012; Code_IPC: J-STD-020; ComponentLink1Description: Manufacturer URL; ComponentLink1URL: http://www.silabs.com/; ComponentLink2Description: Datasheet; ComponentLink2URL: http://www.silabs.com/Support Documents/TechnicalDocs/C8051F30x.pdf; ComponentLink3Description: Package Specification; ComponentLink3URL: http://www.silabs.com/Support Documents/TechnicalDocs/C8051T60x.pdf
footprint SLAB-SOIC-14_N (SOIC, 14-Leads, Body 8.65x3.9mm, Pitch 1.27mm, IPC Medium Density)
footprint SLAB-SOIC-14_L (SOIC, 14-Leads, Body 8.65x3.9mm, Pitch 1.27mm, IPC High Density)
footprint SLAB-SOIC-14_M (SOIC, 14-Leads, Body 8.65x3.9mm, Pitch 1.27mm, IPC Low Density)
pins: 1 P0.6/CNVSTR (io), 2 P0.7/C2D (io), 3 GND (power) "Ground.", 4 NC, 5 P0.0/VREF (io), 6 P0.1 (io) "Port 0.1. See Section 12 for complete description.", 7 VDD (power) "Power Supply Voltage.", 8 P0.2/XTAL1 (io), 9 NC, 10 P0.3/XTAL2 (io), 11 NC, 12 P0.4 (io) "Port 0.4. See Section 12 for complete description.", 13 P0.5 (io) "Port 0.5. See Section 12 for complete description.", 14 ~{RST}/C2CK (io)

## C8051F301-GM
designator U?
Mixed Signal ISP Flash MCU Family, 25 MHz, 0.25 kB RAM, 8 kB Flash, -40 to 85 degC, 11-pin QFN; Manufacturer: Silicon Labs; PartNumber: C8051F301-GM; AEC-Q100: FALSE; Comparators: 1; Debug Interface: C2; Dig I/O Pins: 8; Flash: 8 kB; Internal Osc. Accuracy: +/-2%; MCU Core: 8051; MHz: 25; PCA Channels: 3; RAM: 0.25 kB; Sub-Family: Small Form Factor MCUs; DatasheetVersion: Rev. 2.9; PackageReference: QFN-11; PackageDescription: 11-Pin Quad-Flat No-Leads Package, Body 3 x 3 mm, Pitch 0.5 mm; Supplier 1: Digi-Key; Supplier Part Number 1: 336-1247-ND; Supplier 2: Farnell; Supplier Part Number 2: 1291497; Supplier 3: Mouser; Supplier Part Number 3: 634-C8051F301-GM; Temp Sensor: FALSE; Timers (16-bit): 3; Mounting Technology: Surface Mount; Code_JEDEC: MO-243; Code_IPC: J-STD-020C; ComponentLink1Description: Manufacturer URL; ComponentLink1URL: http://www.silabs.com/; ComponentLink2Description: Datasheet; ComponentLink2URL: http://www.silabs.com/Support Documents/TechnicalDocs/C8051F30x.pdf; ComponentLink3Description: Package Specification; ComponentLink3URL: http://www.silabs.com/Support%20Documents/TechnicalDocs/Si3462.pdf
footprint SLAB-QFN-11-1350x2250TP_N (QFN, 11-Leads, Body 3x3mm, Pitch 0.5mm, Thermal Pad 3x1.35mm, IPC Medium Density)
footprint SLAB-QFN-11-1350x2250TP_L (QFN, 11-Leads, Body 3x3mm, Pitch 0.5mm, Thermal Pad 3x1.35mm, IPC High Density)
footprint SLAB-QFN-11-1350x2250TP_M (QFN, 11-Leads, Body 3x3mm, Pitch 0.5mm, Thermal Pad 3x1.35mm, IPC Low Density)
pins: 1 P0.0/VREF (io), 2 P0.1 (io) "Port 0.1.", 3 VDD (power) "Power Supply Voltage", 4 P0.2/XTAL1 (io), 5 P0.3/XTAL2 (io), 6 P0.4 (io) "Port 0.4.", 7 P0.5 (io) "Port 0.5.", 8 ~{RST}/C2CK (io), 9 P0.6/CNVSTR (io), 10 P0.7/C2D (io), 11 GND (power) "Ground."

## C8051F301-GS
designator U?
Mixed Signal ISP Flash MCU Family, 25 MHz, 0.25 kB RAM, 8 kB Flash, -40 to 85 degC, 14-pin SOIC; Manufacturer: Silicon Labs; PartNumber: C8051F301-GS; AEC-Q100: FALSE; Comparators: 1; Debug Interface: C2; Dig I/O Pins: 8; Flash: 8 kB; Internal Osc. Accuracy: +/-2%; MCU Core: 8051; MHz: 25; PCA Channels: 3; RAM: 0.25 kB; Sub-Family: Small Form Factor MCUs; DatasheetVersion: Rev. 2.9; PackageReference: SOIC-14; PackageDescription: 14-Pin Small-Outline Integrated Circuit, Body 8.65 x 3.9 mm, Pitch 1.27 mm; Supplier 1: Digi-Key; Supplier Part Number 1: 336-1536-5-ND; Supplier 2: Mouser; Supplier Part Number 2: 634-C8051F301-GS; Temp Sensor: FALSE; Timers (16-bit): 3; Mounting Technology: Surface Mount; Code_JEDEC: MS012; Code_IPC: J-STD-020; ComponentLink1Description: Manufacturer URL; ComponentLink1URL: http://www.silabs.com/; ComponentLink2Description: Datasheet; ComponentLink2URL: http://www.silabs.com/Support Documents/TechnicalDocs/C8051F30x.pdf; ComponentLink3Description: Package Specification; ComponentLink3URL: http://www.silabs.com/Support Documents/TechnicalDocs/C8051T60x.pdf
footprint SLAB-SOIC-14_N (SOIC, 14-Leads, Body 8.65x3.9mm, Pitch 1.27mm, IPC Medium Density)
footprint SLAB-SOIC-14_L (SOIC, 14-Leads, Body 8.65x3.9mm, Pitch 1.27mm, IPC High Density)
footprint SLAB-SOIC-14_M (SOIC, 14-Leads, Body 8.65x3.9mm, Pitch 1.27mm, IPC Low Density)
pins: 1 P0.6/CNVSTR (io), 2 P0.7/C2D (io), 3 GND (power) "Ground.", 4 NC, 5 P0.0/VREF (io), 6 P0.1 (io) "Port 0.1. See Section 12 for complete description.", 7 VDD (power) "Power Supply Voltage.", 8 P0.2/XTAL1 (io), 9 NC, 10 P0.3/XTAL2 (io), 11 NC, 12 P0.4 (io) "Port 0.4. See Section 12 for complete description.", 13 P0.5 (io) "Port 0.5. See Section 12 for complete description.", 14 ~{RST}/C2CK (io)

## C8051F302-GM
designator U?
Mixed Signal ISP Flash MCU Family, 25 MHz, 0.25 kB RAM, 8 kB Flash, -40 to 85 degC, 11-pin QFN; Manufacturer: Silicon Labs; PartNumber: C8051F302-GM; ADC 1: 8-bit, 8-ch., 500 ksps; AEC-Q100: FALSE; Comparators: 1; Debug Interface: C2; Dig I/O Pins: 8; Flash: 8 kB; Internal Osc. Accuracy: +/-2%; MCU Core: 8051; MHz: 25; PCA Channels: 3; RAM: 0.25 kB; Temp Sensor: TRUE; Sub-Family: Small Form Factor MCUs; DatasheetVersion: Rev. 2.9; PackageReference: QFN-11; PackageDescription: 11-Pin Quad-Flat No-Leads Package, Body 3 x 3 mm, Pitch 0.5 mm; Supplier 1: Digi-Key; Supplier Part Number 1: 336-1248-ND; Supplier 2: Mouser; Supplier Part Number 2: 634-C8051F302-GM; Timers (16-bit): 3; Mounting Technology: Surface Mount; Code_JEDEC: MO-243; Code_IPC: J-STD-020C; ComponentLink1Description: Manufacturer URL; ComponentLink1URL: http://www.silabs.com/; ComponentLink2Description: Datasheet; ComponentLink2URL: http://www.silabs.com/Support Documents/TechnicalDocs/C8051F30x.pdf; ComponentLink3Description: Package Specification; ComponentLink3URL: http://www.silabs.com/Support%20Documents/TechnicalDocs/Si3462.pdf
footprint SLAB-QFN-11-1350x2250TP_N (QFN, 11-Leads, Body 3x3mm, Pitch 0.5mm, Thermal Pad 3x1.35mm, IPC Medium Density)
footprint SLAB-QFN-11-1350x2250TP_L (QFN, 11-Leads, Body 3x3mm, Pitch 0.5mm, Thermal Pad 3x1.35mm, IPC High Density)
footprint SLAB-QFN-11-1350x2250TP_M (QFN, 11-Leads, Body 3x3mm, Pitch 0.5mm, Thermal Pad 3x1.35mm, IPC Low Density)
pins: 1 P0.0/VREF (io), 2 P0.1 (io) "Port 0.1.", 3 VDD (power) "Power Supply Voltage", 4 P0.2/XTAL1 (io), 5 P0.3/XTAL2 (io), 6 P0.4 (io) "Port 0.4.", 7 P0.5 (io) "Port 0.5.", 8 ~{RST}/C2CK (io), 9 P0.6/CNVSTR (io), 10 P0.7/C2D (io), 11 GND (power) "Ground."

## C8051F302-GS
designator U?
Mixed Signal ISP Flash MCU Family, 25 MHz, 0.25 kB RAM, 8 kB Flash, -40 to 85 degC, 14-pin SOIC; Manufacturer: Silicon Labs; PartNumber: C8051F302-GS; ADC 1: 8-bit, 8-ch., 500 ksps; AEC-Q100: FALSE; Comparators: 1; Debug Interface: C2; Dig I/O Pins: 8; Flash: 8 kB; Internal Osc. Accuracy: +/-2%; MCU Core: 8051; MHz: 25; PCA Channels: 3; RAM: 0.25 kB; Temp Sensor: TRUE; Sub-Family: Small Form Factor MCUs; DatasheetVersion: Rev. 2.9; PackageReference: SOIC-14; PackageDescription: 14-Pin Small-Outline Integrated Circuit, Body 8.65 x 3.9 mm, Pitch 1.27 mm; Supplier 1: Digi-Key; Supplier Part Number 1: 336-1537-5-ND; Supplier 2: Mouser; Supplier Part Number 2: 634-C8051F302-GS; Timers (16-bit): 3; Mounting Technology: Surface Mount; Code_JEDEC: MS012; Code_IPC: J-STD-020; ComponentLink1Description: Manufacturer URL; ComponentLink1URL: http://www.silabs.com/; ComponentLink2Description: Datasheet; ComponentLink2URL: http://www.silabs.com/Support Documents/TechnicalDocs/C8051F30x.pdf; ComponentLink3Description: Package Specification; ComponentLink3URL: http://www.silabs.com/Support Documents/TechnicalDocs/C8051T60x.pdf
footprint SLAB-SOIC-14_N (SOIC, 14-Leads, Body 8.65x3.9mm, Pitch 1.27mm, IPC Medium Density)
footprint SLAB-SOIC-14_L (SOIC, 14-Leads, Body 8.65x3.9mm, Pitch 1.27mm, IPC High Density)
footprint SLAB-SOIC-14_M (SOIC, 14-Leads, Body 8.65x3.9mm, Pitch 1.27mm, IPC Low Density)
pins: 1 P0.6/CNVSTR (io), 2 P0.7/C2D (io), 3 GND (power) "Ground.", 4 NC, 5 P0.0/VREF (io), 6 P0.1 (io) "Port 0.1. See Section 12 for complete description.", 7 VDD (power) "Power Supply Voltage.", 8 P0.2/XTAL1 (io), 9 NC, 10 P0.3/XTAL2 (io), 11 NC, 12 P0.4 (io) "Port 0.4. See Section 12 for complete description.", 13 P0.5 (io) "Port 0.5. See Section 12 for complete description.", 14 ~{RST}/C2CK (io)

## C8051F303-GM
designator U?
Mixed Signal ISP Flash MCU Family, 25 MHz, 0.25 kB RAM, 8 kB Flash, -40 to 85 degC, 11-pin QFN; Manufacturer: Silicon Labs; PartNumber: C8051F303-GM; AEC-Q100: FALSE; Comparators: 1; Debug Interface: C2; Dig I/O Pins: 8; Flash: 8 kB; Internal Osc. Accuracy: +/-20%; MCU Core: 8051; MHz: 25; PCA Channels: 3; RAM: 0.25 kB; Sub-Family: Small Form Factor MCUs; DatasheetVersion: Rev. 2.9; PackageReference: QFN-11; PackageDescription: 11-Pin Quad-Flat No-Leads Package, Body 3 x 3 mm, Pitch 0.5 mm; Supplier 1: Digi-Key; Supplier Part Number 1: 336-1249-ND; Supplier 2: Mouser; Supplier Part Number 2: 634-C8051F303-GM; Temp Sensor: FALSE; Timers (16-bit): 3; Mounting Technology: Surface Mount; Code_JEDEC: MO-243; Code_IPC: J-STD-020C; ComponentLink1Description: Manufacturer URL; ComponentLink1URL: http://www.silabs.com/; ComponentLink2Description: Datasheet; ComponentLink2URL: http://www.silabs.com/Support Documents/TechnicalDocs/C8051F30x.pdf; ComponentLink3Description: Package Specification; ComponentLink3URL: http://www.silabs.com/Support%20Documents/TechnicalDocs/Si3462.pdf
footprint SLAB-QFN-11-1350x2250TP_N (QFN, 11-Leads, Body 3x3mm, Pitch 0.5mm, Thermal Pad 3x1.35mm, IPC Medium Density)
footprint SLAB-QFN-11-1350x2250TP_L (QFN, 11-Leads, Body 3x3mm, Pitch 0.5mm, Thermal Pad 3x1.35mm, IPC High Density)
footprint SLAB-QFN-11-1350x2250TP_M (QFN, 11-Leads, Body 3x3mm, Pitch 0.5mm, Thermal Pad 3x1.35mm, IPC Low Density)
pins: 1 P0.0/VREF (io), 2 P0.1 (io) "Port 0.1.", 3 VDD (power) "Power Supply Voltage", 4 P0.2/XTAL1 (io), 5 P0.3/XTAL2 (io), 6 P0.4 (io) "Port 0.4.", 7 P0.5 (io) "Port 0.5.", 8 ~{RST}/C2CK (io), 9 P0.6/CNVSTR (io), 10 P0.7/C2D (io), 11 GND (power) "Ground."

## C8051F303-GS
designator U?
Mixed Signal ISP Flash MCU Family, 25 MHz, 0.25 kB RAM, 8 kB Flash, -40 to 85 degC, 14-pin SOIC; Manufacturer: Silicon Labs; PartNumber: C8051F303-GS; AEC-Q100: FALSE; Comparators: 1; Debug Interface: C2; Dig I/O Pins: 8; Flash: 8 kB; Internal Osc. Accuracy: +/-20%; MCU Core: 8051; MHz: 25; PCA Channels: 3; RAM: 0.25 kB; Sub-Family: Small Form Factor MCUs; DatasheetVersion: Rev. 2.9; PackageReference: SOIC-14; PackageDescription: 14-Pin Small-Outline Integrated Circuit, Body 8.65 x 3.9 mm, Pitch 1.27 mm; Supplier 1: Digi-Key; Supplier Part Number 1: 336-1538-5-ND; Supplier 2: Mouser; Supplier Part Number 2: 634-C8051F303-GS; Temp Sensor: FALSE; Timers (16-bit): 3; Mounting Technology: Surface Mount; Code_JEDEC: MS012; Code_IPC: J-STD-020; ComponentLink1Description: Manufacturer URL; ComponentLink1URL: http://www.silabs.com/; ComponentLink2Description: Datasheet; ComponentLink2URL: http://www.silabs.com/Support Documents/TechnicalDocs/C8051F30x.pdf; ComponentLink3Description: Package Specification; ComponentLink3URL: http://www.silabs.com/Support Documents/TechnicalDocs/C8051T60x.pdf
footprint SLAB-SOIC-14_N (SOIC, 14-Leads, Body 8.65x3.9mm, Pitch 1.27mm, IPC Medium Density)
footprint SLAB-SOIC-14_L (SOIC, 14-Leads, Body 8.65x3.9mm, Pitch 1.27mm, IPC High Density)
footprint SLAB-SOIC-14_M (SOIC, 14-Leads, Body 8.65x3.9mm, Pitch 1.27mm, IPC Low Density)
pins: 1 P0.6/CNVSTR (io), 2 P0.7/C2D (io), 3 GND (power) "Ground.", 4 NC, 5 P0.0/VREF (io), 6 P0.1 (io) "Port 0.1. See Section 12 for complete description.", 7 VDD (power) "Power Supply Voltage.", 8 P0.2/XTAL1 (io), 9 NC, 10 P0.3/XTAL2 (io), 11 NC, 12 P0.4 (io) "Port 0.4. See Section 12 for complete description.", 13 P0.5 (io) "Port 0.5. See Section 12 for complete description.", 14 ~{RST}/C2CK (io)

## C8051F304-GM
designator U?
Mixed Signal ISP Flash MCU Family, 25 MHz, 0.25 kB RAM, 4 kB Flash, -40 to 85 degC, 11-pin QFN; Manufacturer: Silicon Labs; PartNumber: C8051F304-GM; AEC-Q100: FALSE; Comparators: 1; Debug Interface: C2; Dig I/O Pins: 8; Flash: 4 kB; Internal Osc. Accuracy: +/-20%; MCU Core: 8051; MHz: 25; PCA Channels: 3; RAM: 0.25 kB; Sub-Family: Small Form Factor MCUs; DatasheetVersion: Rev. 2.9; PackageReference: QFN-11; PackageDescription: 11-Pin Quad-Flat No-Leads Package, Body 3 x 3 mm, Pitch 0.5 mm; Supplier 1: Digi-Key; Supplier Part Number 1: 336-1250-ND; Supplier 2: Mouser; Supplier Part Number 2: 634-C8051F304-GM; Temp Sensor: FALSE; Timers (16-bit): 3; Mounting Technology: Surface Mount; Code_JEDEC: MO-243; Code_IPC: J-STD-020C; ComponentLink1Description: Manufacturer URL; ComponentLink1URL: http://www.silabs.com/; ComponentLink2Description: Datasheet; ComponentLink2URL: http://www.silabs.com/Support Documents/TechnicalDocs/C8051F30x.pdf; ComponentLink3Description: Package Specification; ComponentLink3URL: http://www.silabs.com/Support%20Documents/TechnicalDocs/Si3462.pdf
footprint SLAB-QFN-11-1350x2250TP_N (QFN, 11-Leads, Body 3x3mm, Pitch 0.5mm, Thermal Pad 3x1.35mm, IPC Medium Density)
footprint SLAB-QFN-11-1350x2250TP_L (QFN, 11-Leads, Body 3x3mm, Pitch 0.5mm, Thermal Pad 3x1.35mm, IPC High Density)
footprint SLAB-QFN-11-1350x2250TP_M (QFN, 11-Leads, Body 3x3mm, Pitch 0.5mm, Thermal Pad 3x1.35mm, IPC Low Density)
pins: 1 P0.0/VREF (io), 2 P0.1 (io) "Port 0.1.", 3 VDD (power) "Power Supply Voltage", 4 P0.2/XTAL1 (io), 5 P0.3/XTAL2 (io), 6 P0.4 (io) "Port 0.4.", 7 P0.5 (io) "Port 0.5.", 8 ~{RST}/C2CK (io), 9 P0.6/CNVSTR (io), 10 P0.7/C2D (io), 11 GND (power) "Ground."

## C8051F304-GS
designator U?
Mixed Signal ISP Flash MCU Family, 25 MHz, 0.25 kB RAM, 4 kB Flash, -40 to 85 degC, 14-pin SOIC; Manufacturer: Silicon Labs; PartNumber: C8051F304-GS; AEC-Q100: FALSE; Comparators: 1; Debug Interface: C2; Dig I/O Pins: 8; Flash: 4 kB; Internal Osc. Accuracy: +/-20%; MCU Core: 8051; MHz: 25; PCA Channels: 3; RAM: 0.25 kB; Sub-Family: Small Form Factor MCUs; DatasheetVersion: Rev. 2.9; PackageReference: SOIC-14; PackageDescription: 14-Pin Small-Outline Integrated Circuit, Body 8.65 x 3.9 mm, Pitch 1.27 mm; Supplier 1: Digi-Key; Supplier Part Number 1: 336-1539-5-ND; Supplier 2: Mouser; Supplier Part Number 2: 634-C8051F304-GS; Temp Sensor: FALSE; Timers (16-bit): 3; Mounting Technology: Surface Mount; Code_JEDEC: MS012; Code_IPC: J-STD-020; ComponentLink1Description: Manufacturer URL; ComponentLink1URL: http://www.silabs.com/; ComponentLink2Description: Datasheet; ComponentLink2URL: http://www.silabs.com/Support Documents/TechnicalDocs/C8051F30x.pdf; ComponentLink3Description: Package Specification; ComponentLink3URL: http://www.silabs.com/Support Documents/TechnicalDocs/C8051T60x.pdf
footprint SLAB-SOIC-14_N (SOIC, 14-Leads, Body 8.65x3.9mm, Pitch 1.27mm, IPC Medium Density)
footprint SLAB-SOIC-14_L (SOIC, 14-Leads, Body 8.65x3.9mm, Pitch 1.27mm, IPC High Density)
footprint SLAB-SOIC-14_M (SOIC, 14-Leads, Body 8.65x3.9mm, Pitch 1.27mm, IPC Low Density)
pins: 1 P0.6/CNVSTR (io), 2 P0.7/C2D (io), 3 GND (power) "Ground.", 4 NC, 5 P0.0/VREF (io), 6 P0.1 (io) "Port 0.1. See Section 12 for complete description.", 7 VDD (power) "Power Supply Voltage.", 8 P0.2/XTAL1 (io), 9 NC, 10 P0.3/XTAL2 (io), 11 NC, 12 P0.4 (io) "Port 0.4. See Section 12 for complete description.", 13 P0.5 (io) "Port 0.5. See Section 12 for complete description.", 14 ~{RST}/C2CK (io)